# Altium schematic symbol library 6N1381_6N138.SCHLIB: 1 symbol
Pins are listed as number, name and electrical type; pins without a type are passive.

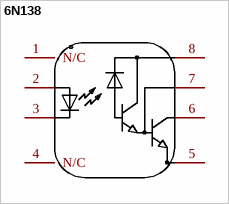
[diagram p0: symbol 6N138]

## 6N138
designator U??  (value not drawn)
Manufacturer: ISOCOM(英国安数光); Add into BOM: yes; Symbol: 6N138; Device: 6N138; LCSC Part Name: 6N138; Supplier Part: C255743; Manufacturer Part: 6N138; Supplier Footprint: DIP-8; JLCPCB Part Class: Extended Part; Datasheet: https://atta.szlcsc.com/upload/public/pdf/source/20180822/C255743_18671C8E554C080D6DA42199C3C846EF.pdf; Supplier: LCSC; Convert to PCB: yes
footprint DIP-8_L9.8-W6.6-P2.54-LS7.6-BL
pins: 1 N/C, 2 A, 3 C, 4 N/C, 5 GND, 6 VOUT, 7 VB, 8 VCC